# Altium footprint library PCBLib.PcbLib: 43 footprints (part 2 of 3)
Each footprint in its own frame and in the unit in brackets; x right, y up, seen from the top. Pads: shape width x height; smd on the part's side, far side on the other; paste and mask are expansions set on the pad; w line width, h text height; cw(c..) or ccw(c..) is an arc to the next point about the centre after c.
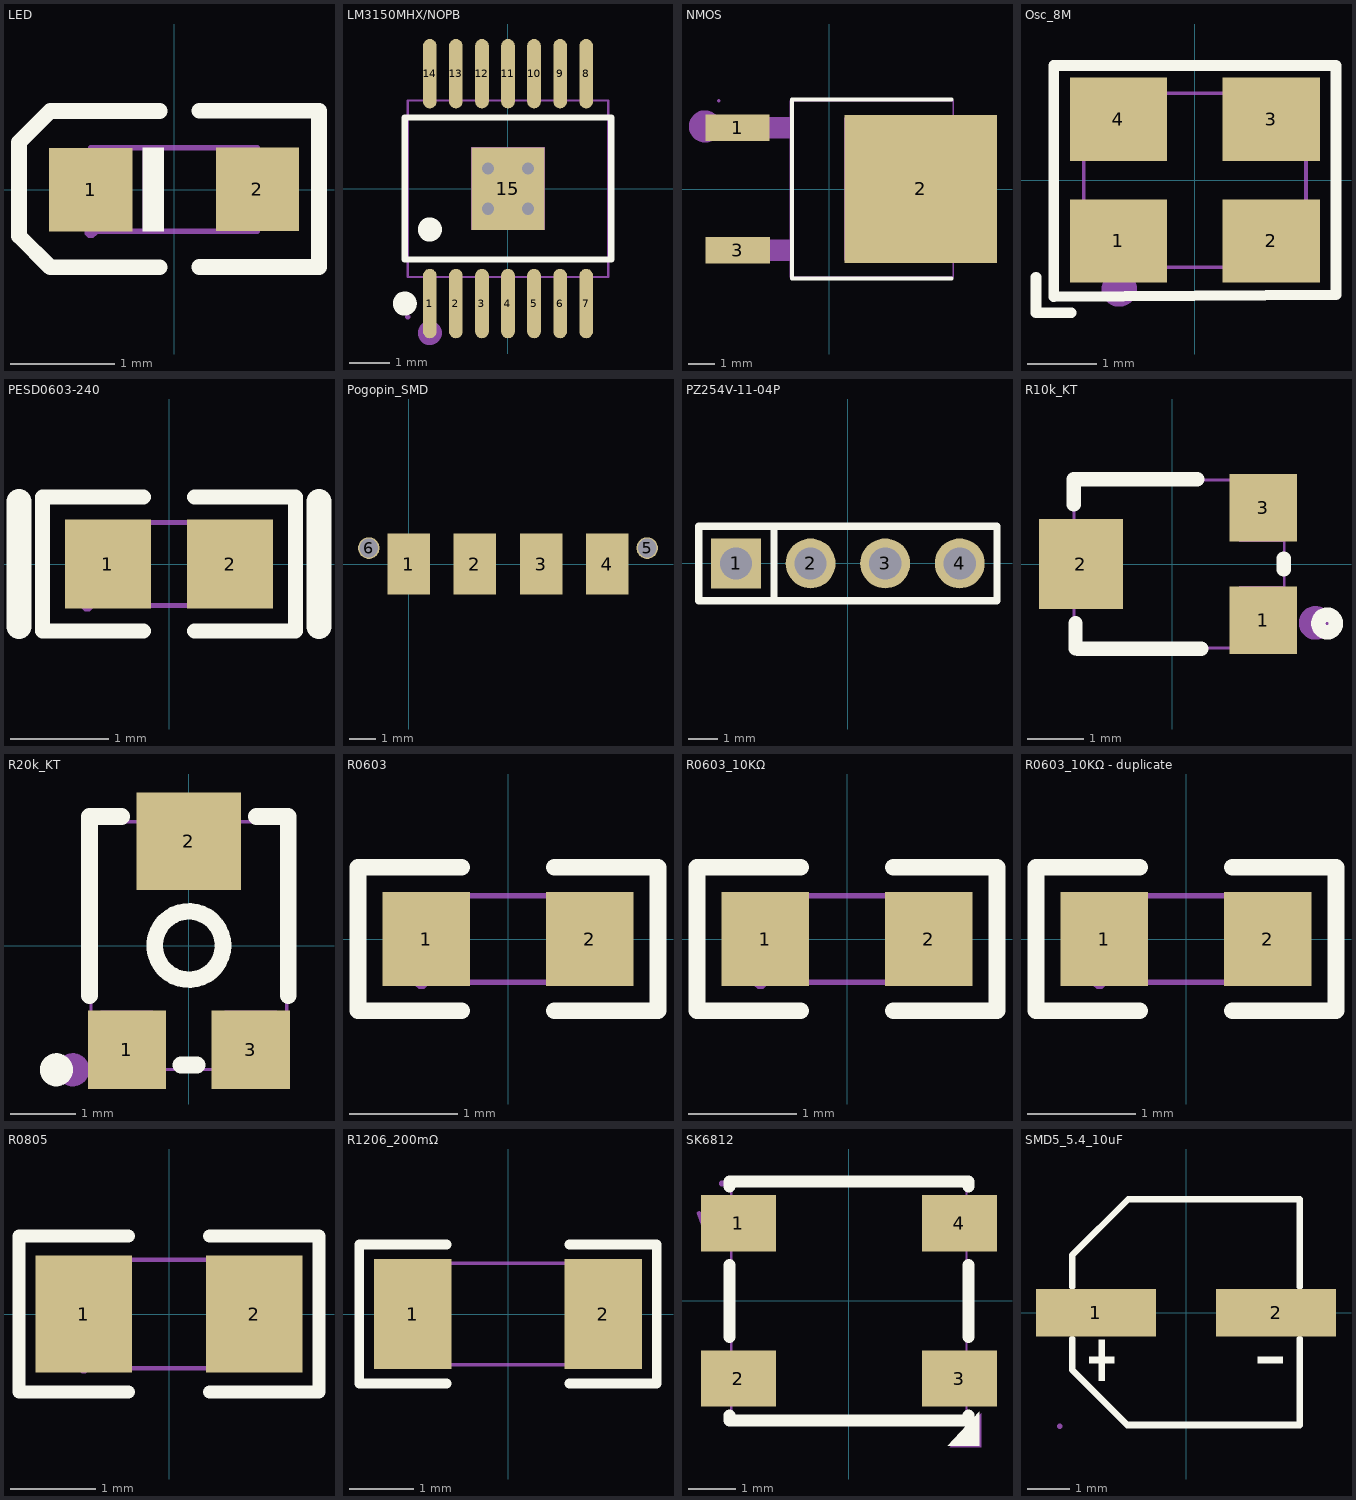
[diagram p1: the footprints below, top view; thin cyan lines are the x and y axes]

## LED [mm] "LED0603-RD_GREEN"
pads (2):
  rect 0.8x0.8 smd: 1(-0.799,-0.003) 2(0.799,0.003)
Top Overlay:
  region: -0.3,0.4 -0.3,-0.4 -0.1,-0.4 -0.1,0.4
  lines w0.15: -0.14,-0.746 -1.19,-0.746 -1.49,-0.446 -1.49,-0.346 -1.49,0.354 -1.49,0.454 -1.19,0.754 -0.14,0.754 ; 0.24,-0.744 1.39,-0.744 ; 0.24,0.757 1.39,0.757 1.39,-0.723
Mechanical 6:
  region: -0.3,0.4 -0.3,-0.4 -0.1,-0.4 -0.1,0.4
  region: -1.07,0.062 -0.53,0.062 -0.53,-0.068 -1.07,-0.068
  region: 0.735,-0.267 0.735,0.273 0.865,0.273 0.865,-0.267
  region: 0.529,0.068 1.069,0.068 1.069,-0.062 0.529,-0.062
Mechanical 15:
  region: -0.8,-0.403 -0.8,0.397 -0.5,0.397 -0.5,-0.403
  region: 0.5,-0.396 0.5,0.404 0.8,0.404 0.8,-0.396
  region: -0.74,-0.403 -0.741,-0.379 -0.775,-0.346 -0.824,-0.346 -0.858,-0.379 -0.859,-0.403 -0.858,-0.428 -0.824,-0.461 -0.775,-0.461 -0.741,-0.428 -0.74,-0.403
  lines w0.051: -0.8,-0.4 0.8,-0.4 0.8,0.4 -0.8,0.4 -0.8,-0.4

## LM3150MHX/NOPB [mm] "HTSSOP-14_L5.0-W4.4-P0.65-LS6.4-BL-EP"
pads (15):
  oval 0.343x1.731 smd: 1(-1.95,-2.866) 2(-1.3,-2.866) 3(-0.65,-2.866) 4(0,-2.866) 5(0.65,-2.866) 6(1.3,-2.866) 7(1.95,-2.866) 8(1.95,2.866) 9(1.3,2.866) 10(0.65,2.866) 11(0,2.866) 12(-0.65,2.866) 13(-1.3,2.866) 14(-1.95,2.866)
  rect 1.83x2.055 smd: 15(0,0)
via 0.5,-0.5 diameter 0.61 hole 0.305
via -0.5,-0.5 diameter 0.61 hole 0.305
via 0.5,0.5 diameter 0.61 hole 0.305
via -0.5,0.5 diameter 0.61 hole 0.305
Top Overlay:
  circle w0.3: c-2.574,-2.866 r0.15
  circle w0.3: c-1.95,-1.019 r0.15
  lines w0.152: -2.576,-1.771 2.576,-1.771 2.576,1.772 -2.576,1.772 -2.576,-1.771
Mechanical 6:
  circle w0.3: c-1.95,-3.6 r0.15
Mechanical 15:
  drawing of 34 lines, arcs and shapes, not listed

## NMOS [mm] "TO-252-2_L6.6-W6.1-P4.58-LS9.9-TL"
pads (3):
  rect 2.409x0.979 smd: 1(-3.424,2.29) 3(-3.423,-2.29)
  rect 5.711x5.548 smd: 2(3.424,0)
Top Overlay:
  lines w0.152: 4.584,-3.346 -1.383,-3.346 -1.383,3.346 4.584,3.346
Mechanical 6:
  circle w0.6: c-4.64,2.34 r0.3
Mechanical 15:
  region: -1.435,2.69 -1.435,1.89 -2.925,1.89 -2.925,2.69
  region: -1.435,-1.89 -1.435,-2.69 -2.925,-2.69 -2.925,-1.89
  region: -2.924,1.89 -4.124,1.89 -4.124,2.69 -2.924,2.69
  region: -2.923,-2.69 -4.124,-2.69 -4.124,-1.89 -2.923,-1.89
  region: 0.568,-2.667 0.568,2.668 5.245,2.668 5.778,2.134 5.778,-2.134 5.245,-2.667
  region: -4.064,3.3 -4.064,3.325 -4.099,3.36 -4.149,3.36 -4.184,3.325 -4.184,3.3 -4.184,3.275 -4.149,3.24 -4.099,3.24 -4.064,3.275 -4.064,3.3
  lines w0.051: -1.45,-3.3 -1.45,3.3 4.65,3.3 4.65,-3.3 -1.45,-3.3

## Osc_8M [mm] "OSC-SMD_4P-L3.2-W2.5-BL"
pads (4):
  rect 1.4x1.2 smd: 1(-1.1,-0.875) 2(1.1,-0.875) 3(1.1,0.875) 4(-1.1,0.875)
Top Overlay:
  lines w0.152: -2.286,-1.397 -2.286,-1.905 -1.778,-1.905 ; -2.029,-1.679 2.032,-1.651 2.032,0 2.032,1.651 -2.029,1.651 -2.029,-1.679
Mechanical 6:
  circle w0.254: c-1.088,-1.567 r0.127
  region: -1.206,1.206 -1.206,0.572 -1.079,0.572 -1.079,1.206
  region: -1.46,0.953 -0.699,0.953 -0.699,0.826 -1.46,0.826
  region: -1.738,-0.536 -1.702,-0.536 -1.702,-0.608 -1.738,-0.608
  region: -1.702,-0.536 -1.666,-0.536 -1.666,-0.608 -1.702,-0.608
  region: -1.666,-0.5 -1.63,-0.5 -1.63,-0.608 -1.666,-0.608
  region: -1.63,-0.464 -1.594,-0.464 -1.594,-0.572 -1.63,-0.572
  region: -1.594,-0.464 -1.558,-0.464 -1.558,-1.004 -1.594,-1.004
  region: -1.558,-0.428 -1.522,-0.428 -1.522,-1.004 -1.558,-1.004
  region: -1.522,-0.428 -1.486,-0.428 -1.486,-1.004 -1.522,-1.004
  region: -1.486,-0.428 -1.45,-0.428 -1.45,-1.004 -1.486,-1.004
Mechanical 15:
  region: 0.6,-0.449 1.5,-0.449 1.5,-1.249 0.6,-1.249
  region: -1.5,-0.449 -0.6,-0.449 -0.6,-1.249 -1.5,-1.249
  region: -1.5,1.249 -0.6,1.249 -0.6,0.449 -1.5,0.449
  region: 0.6,1.249 1.5,1.249 1.5,0.449 0.6,0.449
  region: -1.54,-1.25 -1.54,-1.225 -1.575,-1.191 -1.624,-1.191 -1.659,-1.225 -1.66,-1.25 -1.659,-1.274 -1.624,-1.309 -1.576,-1.309 -1.541,-1.274 -1.54,-1.25
  lines w0.051: -1.6,-1.25 1.6,-1.25 1.6,1.25 -1.6,1.25 -1.6,-1.25

## PESD0603-240 [mm] "D0603-BI"
pads (2):
  rect 0.873x0.907 smd paste-100 mask+0.051: 1(-0.622,0) 2(0.622,0)
Top Overlay:
  lines w0.152: -0.261,-0.682 -1.287,-0.682 -1.287,0.682 -0.261,0.682 ; 0.261,-0.682 1.287,-0.682 1.287,0.682 0.261,0.682
  lines w0.254: -1.524,-0.635 -1.524,0.635 ; 1.524,-0.635 1.524,0.635
Top Paste:
  region: -0.166,-0.145 -0.166,0.145 -0.463,0.454 -0.991,0.454 -1.058,0.386 -1.058,-0.386 -0.991,-0.454 -0.463,-0.454
  region: 0.166,-0.145 0.166,0.145 0.463,0.454 0.991,0.454 1.058,0.386 1.058,-0.386 0.991,-0.454 0.463,-0.454
Mechanical 15:
  region: 0.83,-0.42 0.83,0.42 0.4,0.42 0.4,-0.42
  region: -0.83,-0.42 -0.83,0.42 -0.4,0.42 -0.4,-0.42
  region: -0.77,-0.42 -0.771,-0.396 -0.806,-0.361 -0.855,-0.361 -0.89,-0.396 -0.89,-0.42 -0.89,-0.445 -0.855,-0.479 -0.806,-0.479 -0.771,-0.445 -0.77,-0.42
  lines w0.051: -0.83,-0.42 0.83,-0.42 0.83,0.42 -0.83,0.42 -0.83,-0.42

## Pogopin_SMD [mm]
pads (6):
  rect 1.6x2.3 smd: 1(0,0) 2(2.5,0) 3(5,0) 4(7.5,0)
  round 0.813 hole 0.711: 5(9,0.6) 6(-1.5,0.6)

## PZ254V-11-04P [mm] "HDR-TH_4P-P2.54-V-M"
pads (4):
  rect 1.7x1.7 hole 1.1: 1(-3.81,0)
  round 1.7 hole 1.1: 2(-1.27,0) 3(1.27,0) 4(3.81,0)
Top Overlay:
  lines w0.254: -2.516,-1.27 -2.516,1.27 ; -2.516,1.27 5.08,1.27 5.08,-1.27 -5.08,-1.27 -5.08,1.27 -2.516,1.27
Mechanical 15:
  region: -5.02,-1.25 -5.02,-1.225 -5.055,-1.19 -5.105,-1.19 -5.14,-1.225 -5.14,-1.25 -5.14,-1.275 -5.105,-1.31 -5.055,-1.31 -5.02,-1.275 -5.02,-1.25
  region: -4.13,0.32 -3.49,0.32 -3.49,-0.32 -4.13,-0.32
  region: -1.59,0.32 -0.95,0.32 -0.95,-0.32 -1.59,-0.32
  region: 0.95,0.32 1.59,0.32 1.59,-0.32 0.95,-0.32
  region: 3.49,0.32 4.13,0.32 4.13,-0.32 3.49,-0.32
  lines w0.051: -5.08,-1.25 -5.08,1.25 5.08,1.25 5.08,-1.25 -5.08,-1.25

## R10k_KT [mm] "RES-ADJ-SMD_3P-L3.0-W3.8-P1.75-BR"
pads (3):
  rect 1.2x1.2 smd: 1(1.625,-1) 3(1.625,1)
  rect 1.5x1.6 smd: 2(-1.625,0)
Top Overlay:
  circle w0.254: c2.765,-1.06 r0.158
  lines w0.254: -1.75,1.06 -1.75,1.51 0.45,1.51 ; -1.72,-1.505 -1.72,-1.055 ; -1.68,-1.51 0.52,-1.51 ; 1.99,-0.1 1.99,0.1
Mechanical 6:
  circle w0.3: c2.56,-1.05 r0.15
Mechanical 15:
  region: -1.05,0.75 -1.05,-0.75 -1.8,-0.75 -1.8,0.75
  region: 2,1.35 2,0.4 1.2,0.4 1.2,1.35
  region: 2,-0.4 2,-1.35 1.2,-1.35 1.2,-0.4
  region: 2.06,-1.5 2.059,-1.476 2.024,-1.442 1.976,-1.443 1.941,-1.476 1.94,-1.5 1.941,-1.524 1.976,-1.558 2.024,-1.558 2.059,-1.524 2.06,-1.5
  lines w0.051: -1.75,-1.5 -1.75,1.5 2,1.5 2,-1.5 -1.75,-1.5

## R20k_KT [mm] "RES-ADJ-SMD_TC33X-2-104E"
pads (3):
  rect 1.2x1.2 smd: 1(-0.95,-1.6) 3(0.95,-1.6)
  rect 1.6x1.5 smd: 2(0,1.6)
Top Overlay:
  circle w0.254: c-2.032,-1.905 r0.127
  circle w0.254: c0,0 r0.524
  lines w0.254: -1.524,-0.769 -1.524,1.978 -1.031,1.978 ; -0.127,-1.832 0.127,-1.832 ; 1.031,1.978 1.524,1.978 1.524,-0.769
Mechanical 6:
  circle w0.254: c-1.778,-1.905 r0.127
Mechanical 15:
  region: 0.55,-1.9 0.55,-1 1.35,-1 1.35,-1.9
  region: -1.35,-1.9 -1.35,-1 -0.55,-1 -0.55,-1.9
  region: -0.75,1.9 0.75,1.9 0.75,1 -0.75,1
  region: -1.44,-1.9 -1.44,-1.875 -1.475,-1.84 -1.525,-1.84 -1.56,-1.875 -1.56,-1.9 -1.56,-1.925 -1.525,-1.96 -1.475,-1.96 -1.44,-1.925 -1.44,-1.9
  lines w0.051: -1.5,-1.9 -1.5,1.9 1.5,1.9 1.5,-1.9 -1.5,-1.9

## R0603 [mm] "0603"
pads (2):
  rect 0.806x0.864 smd paste-100 mask+0.051: 1(-0.753,0) 2(0.753,0)
Top Overlay:
  lines w0.152: -0.426,-0.661 -1.385,-0.661 -1.385,0.661 -0.426,0.661 ; 0.426,-0.661 1.385,-0.661 1.385,0.661 0.426,0.661
Top Paste:
  region: 1.195,0.45 0.395,0.45 0.345,0.4 0.345,0.172 0.715,0.172 0.715,-0.158 0.345,-0.158 0.345,-0.4 0.395,-0.45 1.195,-0.45 1.245,-0.4 1.245,0.4
  region: -1.195,-0.45 -0.395,-0.45 -0.345,-0.4 -0.345,-0.172 -0.715,-0.172 -0.715,0.158 -0.345,0.158 -0.345,0.4 -0.395,0.45 -1.195,0.45 -1.245,0.4 -1.245,-0.4
Mechanical 15:
  region: -0.74,-0.4 -0.74,-0.375 -0.775,-0.34 -0.825,-0.34 -0.86,-0.375 -0.86,-0.4 -0.86,-0.425 -0.825,-0.46 -0.775,-0.46 -0.74,-0.425 -0.74,-0.4
  region: -0.8,-0.4 -0.8,0.4 -0.5,0.4 -0.5,-0.4
  region: 0.8,-0.4 0.8,0.4 0.5,0.4 0.5,-0.4
  lines w0.051: -0.8,-0.4 -0.8,0.4 0.8,0.4 0.8,-0.4 -0.8,-0.4

## R0603_10KΩ [mm] "R0603"
pads (2):
  rect 0.806x0.864 smd paste-100 mask+0.051: 1(-0.753,0) 2(0.753,0)
Top Overlay:
  lines w0.152: -0.426,-0.661 -1.385,-0.661 -1.385,0.661 -0.426,0.661 ; 0.426,-0.661 1.385,-0.661 1.385,0.661 0.426,0.661
Top Paste:
  region: 1.195,0.45 0.395,0.45 0.345,0.4 0.345,0.172 0.715,0.172 0.715,-0.158 0.345,-0.158 0.345,-0.4 0.395,-0.45 1.195,-0.45 1.245,-0.4 1.245,0.4
  region: -1.195,-0.45 -0.395,-0.45 -0.345,-0.4 -0.345,-0.172 -0.715,-0.172 -0.715,0.158 -0.345,0.158 -0.345,0.4 -0.395,0.45 -1.195,0.45 -1.245,0.4 -1.245,-0.4
Mechanical 15:
  region: -0.74,-0.4 -0.74,-0.375 -0.775,-0.34 -0.825,-0.34 -0.86,-0.375 -0.86,-0.4 -0.86,-0.425 -0.825,-0.46 -0.775,-0.46 -0.74,-0.425 -0.74,-0.4
  region: -0.8,-0.4 -0.8,0.4 -0.5,0.4 -0.5,-0.4
  region: 0.8,-0.4 0.8,0.4 0.5,0.4 0.5,-0.4
  lines w0.051: -0.8,-0.4 -0.8,0.4 0.8,0.4 0.8,-0.4 -0.8,-0.4

## R0603_10KΩ - duplicate [mm] "R0603"
pads (2):
  rect 0.806x0.864 smd paste-100 mask+0.051: 1(-0.753,0) 2(0.753,0)
Top Overlay:
  lines w0.152: -0.426,-0.661 -1.385,-0.661 -1.385,0.661 -0.426,0.661 ; 0.426,-0.661 1.385,-0.661 1.385,0.661 0.426,0.661
Top Paste:
  region: -1.195,-0.45 -0.395,-0.45 -0.345,-0.4 -0.345,-0.172 -0.715,-0.172 -0.715,0.158 -0.345,0.158 -0.345,0.4 -0.395,0.45 -1.195,0.45 -1.245,0.4 -1.245,-0.4
  region: 1.195,0.45 0.395,0.45 0.345,0.4 0.345,0.172 0.715,0.172 0.715,-0.158 0.345,-0.158 0.345,-0.4 0.395,-0.45 1.195,-0.45 1.245,-0.4 1.245,0.4
Mechanical 15:
  region: 0.8,-0.4 0.8,0.4 0.5,0.4 0.5,-0.4
  region: -0.8,-0.4 -0.8,0.4 -0.5,0.4 -0.5,-0.4
  region: -0.74,-0.4 -0.74,-0.375 -0.775,-0.34 -0.825,-0.34 -0.86,-0.375 -0.86,-0.4 -0.86,-0.425 -0.825,-0.46 -0.775,-0.46 -0.74,-0.425 -0.74,-0.4
  lines w0.051: -0.8,-0.4 0.8,-0.4 0.8,0.4 -0.8,0.4 -0.8,-0.4

## R0805 [mm] "R0805"
pads (2):
  rect 1.133x1.377 smd paste-100 mask+0.051: 1(-1,0) 2(1,0)
Top Overlay:
  lines w0.152: -0.476,-0.917 -1.761,-0.917 -1.761,0.917 -0.476,0.917 ; 0.476,-0.917 1.761,-0.917 1.761,0.917 0.476,0.917
Top Paste:
  region: 0.45,-0.64 0.45,-0.22 0.895,-0.22 0.895,0.23 0.455,0.23 0.45,0.64 0.5,0.69 1.65,0.69 1.7,0.64 1.7,-0.64 1.65,-0.69 0.5,-0.69
  region: -1.7,-0.64 -1.7,0.64 -1.65,0.69 -0.5,0.69 -0.45,0.64 -0.445,0.23 -0.895,0.23 -0.895,-0.22 -0.455,-0.22 -0.45,-0.64 -0.5,-0.69 -1.65,-0.69
Mechanical 15:
  region: 1,-0.637 1,0.637 0.6,0.637 0.6,-0.637
  region: -1,-0.637 -1,0.637 -0.6,0.637 -0.6,-0.637
  region: -0.94,-0.638 -0.941,-0.614 -0.976,-0.58 -1.024,-0.58 -1.059,-0.613 -1.06,-0.637 -1.059,-0.661 -1.024,-0.695 -0.976,-0.695 -0.941,-0.662 -0.94,-0.638
  lines w0.051: -1,-0.637 1,-0.637 1,0.637 -1,0.637 -1,-0.637

## R1206_200mΩ [mm] "R1206"
pads (2):
  rect 1.208x1.701 smd paste-100 mask+0.051: 1(-1.479,0) 2(1.479,0)
Top Overlay:
  lines w0.152: -0.951,-1.079 -2.311,-1.079 -2.311,1.079 -0.951,1.079 ; 0.951,-1.079 2.311,-1.079 2.311,1.079 0.951,1.079
Top Paste:
  region: 0.875,-0.75 0.875,-0.389 0.975,-0.289 1.186,-0.289 1.286,-0.189 1.286,0.189 1.186,0.289 0.975,0.289 0.875,0.389 0.875,0.75 0.975,0.85 1.983,0.85 2.083,0.75 2.083,-0.75 1.983,-0.85 0.975,-0.85
  region: -0.875,-0.75 -0.875,-0.389 -0.975,-0.289 -1.186,-0.289 -1.286,-0.189 -1.286,0.189 -1.186,0.289 -0.975,0.289 -0.875,0.389 -0.875,0.75 -0.975,0.85 -1.983,0.85 -2.083,0.75 -2.083,-0.75 -1.983,-0.85 -0.975,-0.85
Mechanical 15:
  region: -1.49,-0.787 -1.491,-0.763 -1.526,-0.729 -1.574,-0.729 -1.609,-0.763 -1.61,-0.788 -1.609,-0.812 -1.574,-0.846 -1.526,-0.846 -1.491,-0.812 -1.49,-0.787
  region: -1.55,-0.788 -1.55,0.788 -1.1,0.788 -1.1,-0.788
  region: 1.55,-0.788 1.55,0.788 1.1,0.788 1.1,-0.788
  lines w0.051: -1.55,-0.788 -1.55,0.788 1.55,0.788 1.55,-0.788 -1.55,-0.788

## SK6812 [mm] "LED-SMD_4P-L5.0-W5.0-LS5.4-TL-1"
pads (4):
  rect 1.6x1.2 smd paste+0 mask+0.05: 1(-2.35,1.65) 2(-2.35,-1.65) 3(2.35,-1.65) 4(2.35,1.65)
Top Overlay:
  region: 2.101,-3.085 2.775,-3.085 2.775,-2.361
  lines w0.254: -2.54,-2.431 -2.54,-2.54 2.54,-2.54 2.54,-2.431 ; -2.54,-0.769 -2.54,0.769 ; -2.54,2.431 -2.54,2.54 2.54,2.54 2.54,2.431 ; 2.54,-0.769 2.54,0.769
Mechanical 6:
  region: 2.143,-3.113 2.816,-3.113 2.816,-2.39
  region: -2.028,1.912 -2.062,1.882 -2.065,1.355 -1.957,1.354 -1.963,1.808
  region: -2.029,1.912 -1.804,1.909 -1.698,1.859 -1.634,1.8 -1.602,1.724 -1.575,1.639 -1.577,1.488 -1.609,1.387 -1.645,1.33 -1.709,1.273 -1.828,1.237 -2.035,1.241 -2.062,1.264 -2.064,1.293 -2.064,1.359 -1.961,1.356 -1.964,1.341 -1.84,1.338 -1.765,1.362 -1.722,1.398 -1.703,1.445 -1.68,1.514 -1.683,1.627 -1.728,1.746 -1.766,1.788 -1.83,1.806 -1.962,1.808
  region: -2.581,1.915 -2.615,1.885 -2.618,1.358 -2.51,1.357 -2.516,1.81
  region: -2.582,1.915 -2.357,1.912 -2.251,1.862 -2.187,1.803 -2.155,1.727 -2.128,1.642 -2.13,1.491 -2.162,1.39 -2.198,1.333 -2.262,1.276 -2.381,1.239 -2.588,1.244 -2.615,1.267 -2.617,1.296 -2.617,1.362 -2.514,1.359 -2.517,1.344 -2.393,1.341 -2.318,1.365 -2.275,1.401 -2.256,1.448 -2.233,1.517 -2.236,1.63 -2.281,1.749 -2.319,1.791 -2.383,1.809 -2.515,1.81
  region: -2.723,1.909 -2.759,1.912 -2.782,1.894 -2.964,1.433 -3.144,1.89 -3.175,1.911 -3.199,1.911 -3.219,1.899 -3.231,1.875 -3.229,1.843 -3.01,1.26 -2.993,1.249 -2.972,1.241 -2.949,1.241 -2.926,1.249 -2.914,1.277 -2.695,1.856 -2.693,1.873 -2.707,1.896
Mechanical 15:
  region: -2.64,2.5 -2.641,2.524 -2.676,2.558 -2.724,2.558 -2.759,2.524 -2.76,2.5 -2.759,2.476 -2.724,2.442 -2.675,2.442 -2.641,2.476 -2.64,2.5
  region: 1.8,2.1 2.7,2.1 2.7,1.2 1.8,1.2
  region: 1.8,-1.2 2.7,-1.2 2.7,-2.1 1.8,-2.1
  region: -2.7,-1.2 -1.8,-1.2 -1.8,-2.1 -2.7,-2.1
  region: -2.7,2.1 -1.8,2.1 -1.8,1.2 -2.7,1.2
  lines w0.051: -2.5,-2.5 -2.5,2.5 2.5,2.5 2.5,-2.5 -2.5,-2.5

## SMD5_5.4_10uF [mm] "CAP-SMD_BD5.0-L5.3-W5.3-FD"
pads (2):
  rect 2.8x1.1 smd: 1(-2.1,0) 2(2.1,0)
Top Overlay:
  region: 2.256,-1.032 2.256,-1.176 1.68,-1.176 1.68,-1.032
  region: -2.256,-1.032 -2.256,-1.176 -1.68,-1.176 -1.68,-1.032
  region: -2.04,-0.624 -2.04,-1.584 -1.896,-1.584 -1.896,-0.624
  lines w0.152: -2.659,-0.607 -2.659,-1.331 -1.372,-2.619 2.649,-2.619 2.649,-0.607 ; -2.659,0.607 -2.659,1.341 -1.349,2.649 2.659,2.649 2.659,0.607
Mechanical 6:
  region: 2.256,0.072 2.256,-0.072 1.68,-0.072 1.68,0.072
  region: -2.256,0.072 -2.256,-0.072 -1.68,-0.072 -1.68,0.072
  region: -2.04,0.48 -2.04,-0.48 -1.896,-0.48 -1.896,0.48
Mechanical 15:
  region: -2.89,-2.65 -2.891,-2.626 -2.926,-2.592 -2.974,-2.592 -3.009,-2.626 -3.01,-2.65 -3.009,-2.674 -2.974,-2.708 -2.926,-2.708 -2.891,-2.674 -2.89,-2.65
  region: -2.95,0.33 -0.85,0.33 -0.85,-0.32 -2.95,-0.32
  region: 2.95,-0.32 0.85,-0.32 0.85,0.33 2.95,0.33
  lines w0.051: -2.65,-1.35 -1.35,-2.65 2.65,-2.65 2.65,2.65 -1.35,2.65 -2.65,1.35 -2.65,-1.35